# EAGLE library part RFM70 (library RFM70)
RFM70 short range 2.4GHz RF transceiver module
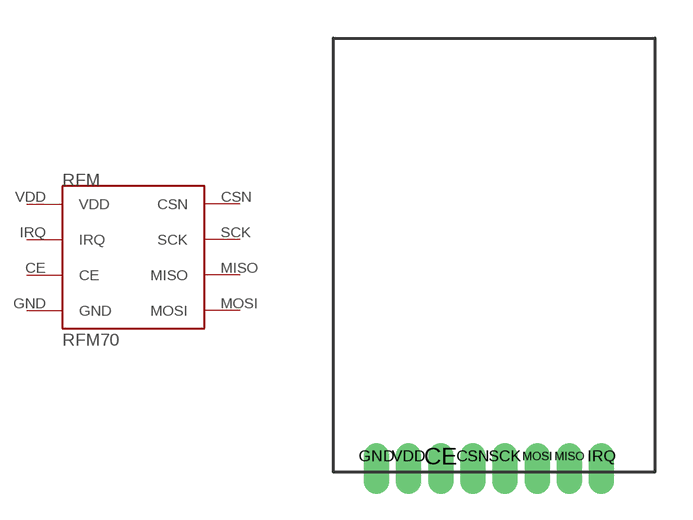
[diagram p0: symbol with the pads of RFM70; footprint RFM70]

Designator prefix RFM

## RFM70  [RFM70]
CE  CE  in
CSN  CSN  in
GND  GND  pwr
IRQ  IRQ  out
MISO  MISO  out
MOSI  MOSI  in
SCK  SCK  in
VDD  VDD  pwr

## Footprint RFM70 (pad centres in mm)
RFM70 DIP package (SMD pads)
drill 0.5 pad 0.813 offset: CE 4.242,-16.51; CSN 5.512,-16.51; GND 1.702,-16.51; IRQ 10.592,-16.51; MISO 9.322,-16.51; MOSI 8.052,-16.51; SCK 6.782,-16.51; VDD 2.972,-16.51